# EAGLE library part 750370140 (library wurth_electronics_midcom_inc_v2-1)
Package Style: EE20/10/6 Mounting: THT Pins: 14 pins Bobbin: 070-5643 Best pinouts for production vary per application. Please contact Wurth Electronics Midcom, Inc. for assistance with your custom design. Website: Wurth Electronics Midcom <http://www.we-online.com/midcom> Contact us Wurth Electronics Midcom, Inc. 121 Airport Dr. Watertown, SD 57201 Phone: (605) 886-4385 Fax: (605) 886-4486 E-Mail: midcom@we-online.com
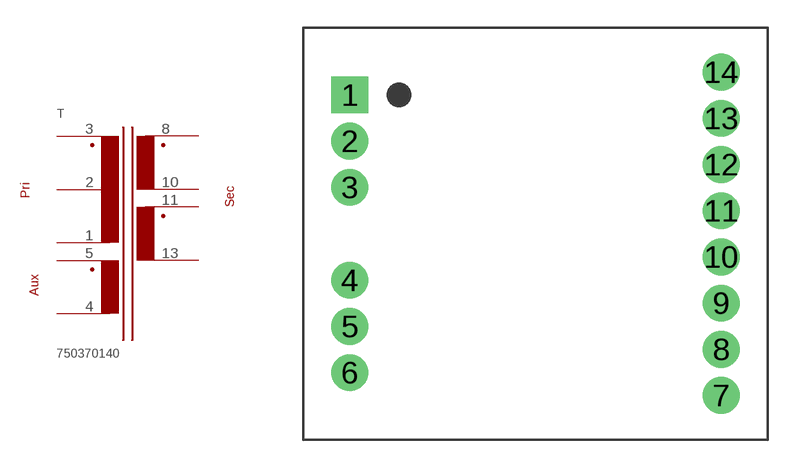
[diagram p3: symbol with the pads of EE20/10/6_THT_H_14PIN_(5643); footprint EE20/10/6_THT_H_14PIN_(5643)]

Designator prefix T

## 750370140  [EE20/10/6_THT_H_14PIN_(5643)]
1  1  pas
2  2  pas
3  3  pas
4  4  pas
5  5  pas
8  8  pas
10  10  pas
11  11  pas
13  13  pas

## Footprint EE20/10/6_THT_H_14PIN_(5643) (pad centres in mm)
Package Style: EE20/10/6 Mounting: THT Pins: 14 Bobbin: 070-5643
drill 1.321 square: 1 -9.995,7.48
drill 1.321: 2 -9.995,4.991; 3 -9.995,2.502; 4 -9.995,-2.502; 5 -9.995,-4.991; 6 -9.995,-7.48; 7 9.995,-8.712; 8 9.995,-6.223; 9 9.995,-3.734; 10 9.995,-1.245; 11 9.995,1.245; 12 9.995,3.734; 13 9.995,6.223; 14 9.995,8.712